# Altium footprint library Capacité.PcbLib: 4 footprints
Each footprint in its own frame and in the unit in brackets; x right, y up, seen from the top. Pads: shape width x height; smd on the part's side, far side on the other; paste and mask are expansions set on the pad; w line width, h text height; cw(c..) or ccw(c..) is an arc to the next point about the centre after c.
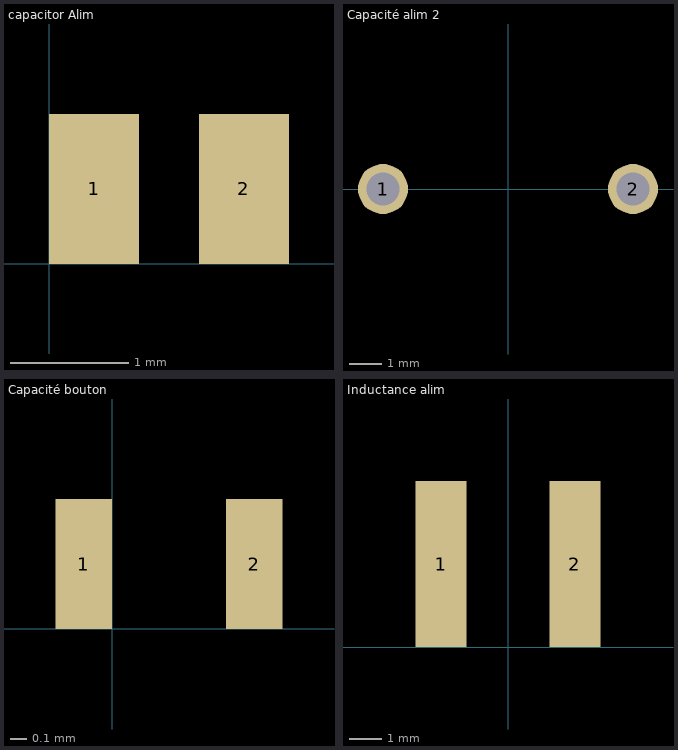
[diagram p0: the footprints below, top view; thin cyan lines are the x and y axes]

## capacitor Alim [mil]
pads (2):
  rect 30x50 smd: 1(15,25) 2(65,25)

## Capacité alim 2 [mil]
pads (2):
  round 60 hole 40: 1(-150,0) 2(150,0)

## Capacité bouton [mil]
pads (2):
  rect 14x32 smd: 1(-7,16) 2(35,16)

## Inductance alim [mil]
pads (2):
  rect 63x205 smd: 1(-82.5,102.5) 2(82.5,102.5)